# Altium schematic symbol library 794285-1.Schlib: 1 symbol
Pins are listed as number, name and electrical type; pins without a type are passive.

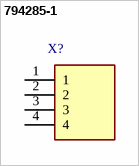
[diagram p0: symbol 794285-1]

## 794285-1
designator X?
Manufacturer_Name: TE Connectivity; Manufacturer_Part_Number: 794285-1; Description: Configuration Features: Number of Power Positions 4 | Number of Positions 4 | Number of Rows 1 | PCB Mount Orientation Vertical | Contact Features: Contact Type Socket | Contact Mating Area Plating Material Tin | Contact Current Rating (Max) 12 AMP | Contact Layout Inline | PCB Contact Termination Area Plating Material Pre-Tin | Contact Retention Within Housing Without | Multiple Contact Types Without | Electrical Characteristics: Operating Voltage 250 VAC | Housing Features: Housing Color Natural | Housing; Datasheet Link: https://www.te.com/commerce/DocumentDelivery/DDEController?Action=srchrtrv&DocNm=82181_SOFTSHELL_STANDARD_DENSITY&DocType=Catalog%20Section&DocLang=English&PartCntxt=794285-1&DocFormat=pdf; Height: 11.56mm; Mouser Part Number: 571-794285-1; Mouser Price/Stock: https://www.mouser.co.uk/ProductDetail/TE-Connectivity-AMP/794285-1?qs=9XeCyKUmamjtqPG5jJ4Npw%3D%3D; Arrow Part Number: 794285-1; Arrow Price/Stock: https://www.arrow.com/en/products/794285-1/te-connectivity?region=nac
pins: 1, 2, 3, 4